# Altium footprint library Resistor - Surface Mount - 0603.PcbLib: 1 footprints
Each footprint in its own frame and in the unit in brackets; x right, y up, seen from the top. Pads: shape width x height; smd on the part's side, far side on the other; paste and mask are expansions set on the pad; w line width, h text height; cw(c..) or ccw(c..) is an arc to the next point about the centre after c.
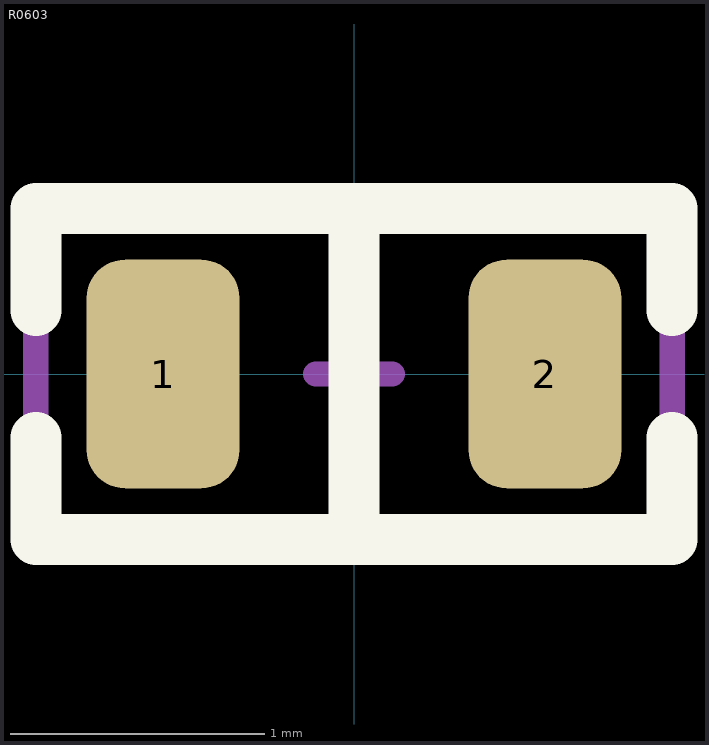
[diagram p0: the footprint, top view; thin cyan lines are the x and y axes]

## R0603 [mm]
pads (2):
  rrect50% 0.6x0.9 smd: 1(-0.75,0) 2(0.75,0)
Top Overlay:
  lines w0.2: -1.25,-0.25 -1.25,-0.65 0,-0.65 ; -1.25,0.25 -1.25,0.65 0,0.65 ; 1.25,-0.25 1.25,-0.65 0,-0.65 ; 1.25,0.25 1.25,0.65 0,0.65 ; 0,-0.65 0,0.65
Mechanical 2:
  lines w0.1: -0.15,0 0.15,0 ; 0,-0.15 0,0.15 ; -1.25,-0.65 1.25,-0.65 1.25,0.65 0,0.65 -1.25,0.65 -1.25,-0.65
3D body "R0603.STEP": height 0.53, standoff -0.02, extent -0.8,-0.4 0.8,0.4